# Altium integrated library PLS-5__.IntLib: 1 symbol
Pins are listed as number, name and electrical type; pins without a type are passive.

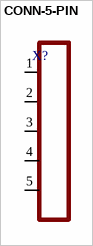
[diagram p0: symbol CONN-5-PIN]

## CONN-5-PIN
designator X?
footprint CONN-PLS-5-2.54mm
pins: 1, 2, 3, 4, 5